# Altium footprint library 100nF-C0805C104K5RACTU.PcbLib: 1 footprints
Each footprint in its own frame and in the unit in brackets; x right, y up, seen from the top. Pads: shape width x height; smd on the part's side, far side on the other; paste and mask are expansions set on the pad; w line width, h text height; cw(c..) or ccw(c..) is an arc to the next point about the centre after c.
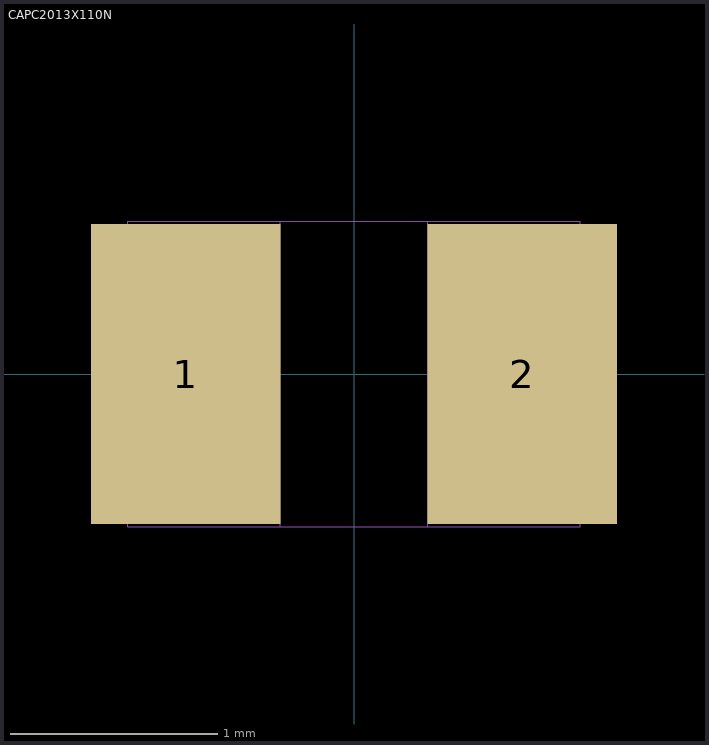
[diagram p0: the footprint, top view; thin cyan lines are the x and y axes]

## CAPC2013X110N [mil]
pads (2):
  rect 36x57 smd: 1(-32,0) 2(32,0)
Mechanical 1:
  lines w0: -14,-29 14,-29 ; -14,-29 -43,-29 -43,29 -14,29 ; -14,-29 -14,29 ; -14,29 14,29 ; 14,-29 43,-29 43,29 14,29 ; 14,-29 14,29